# Altium integrated library 单片机常用.IntLib: 78 symbols
Pins are listed as number, name and electrical type; pins without a type are passive.

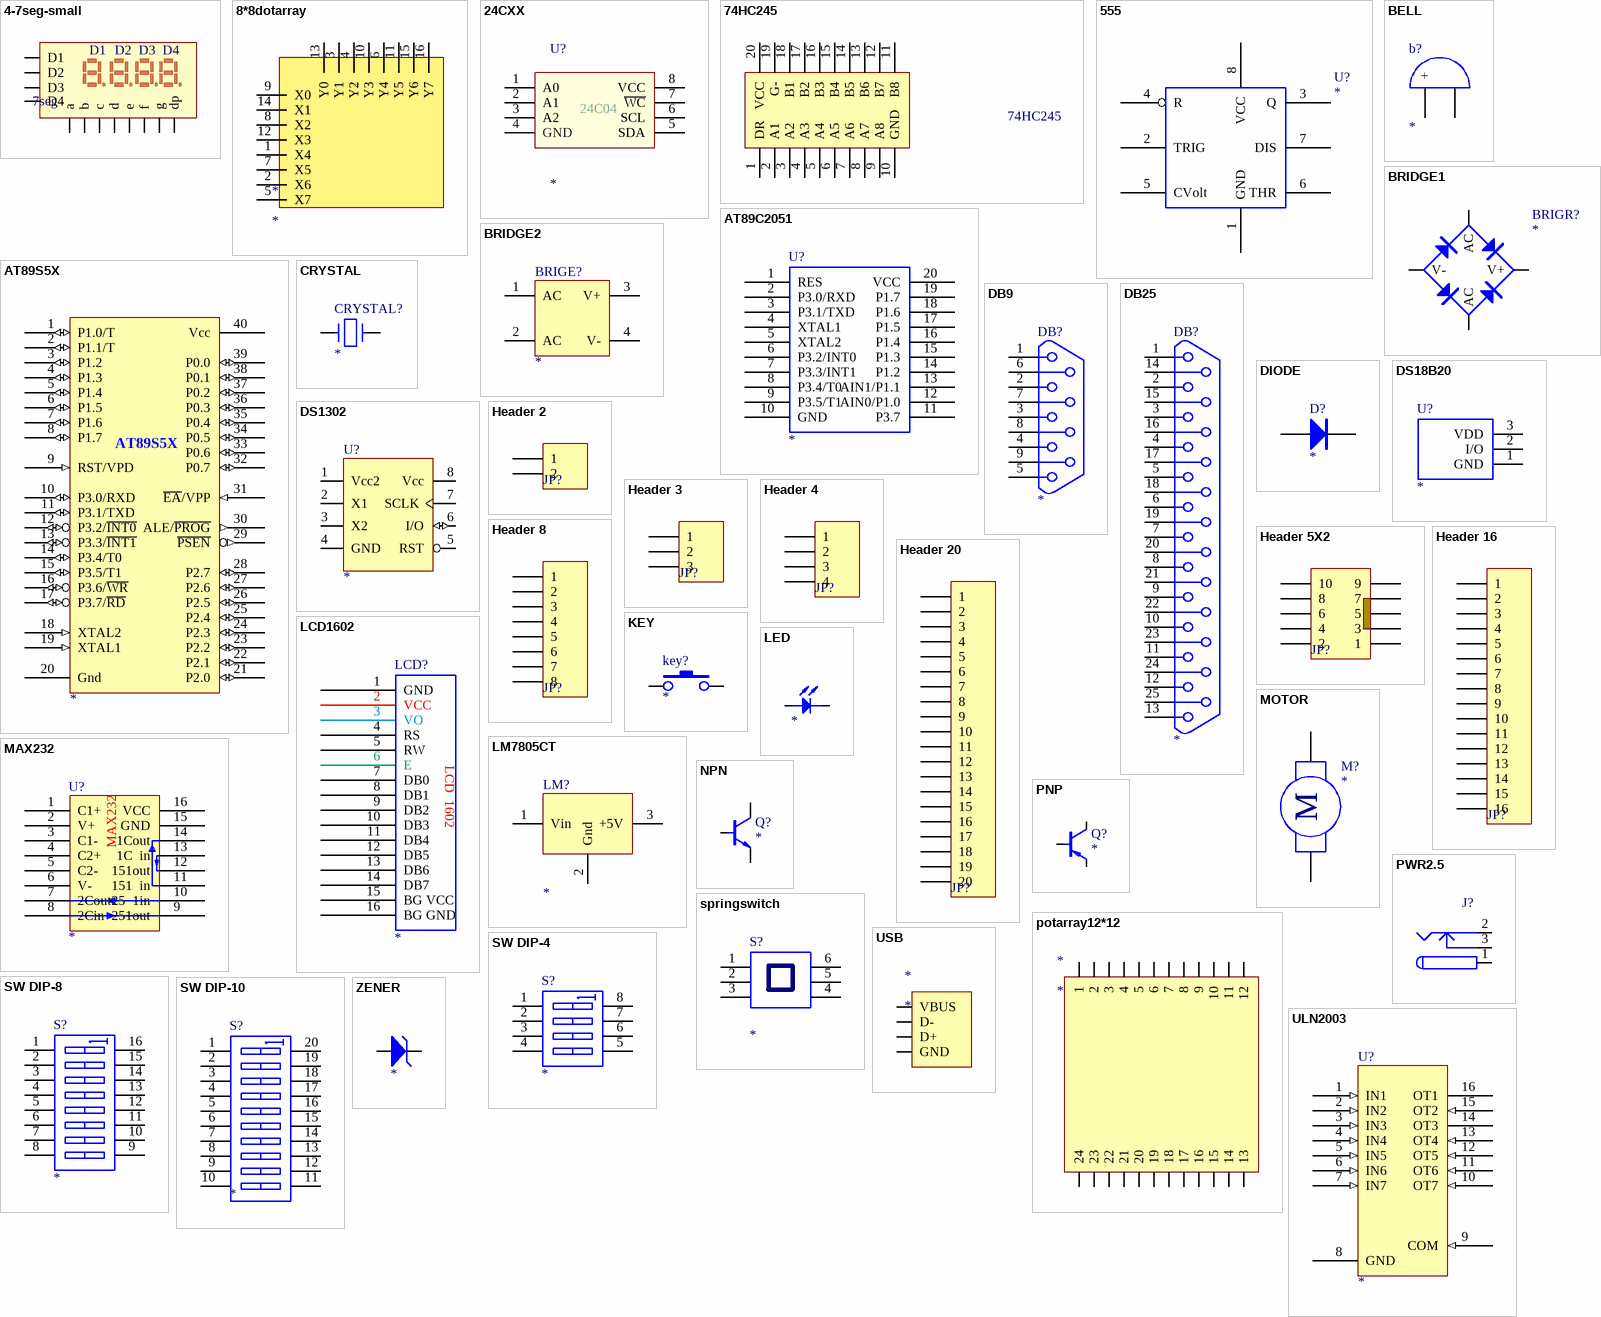
[diagram p0: symbols 4-7seg-small to ZENER]

## 4-7seg-small
designator 7seg, comment 7seg  (value not drawn)
footprint 4-7seg-small
pins: 1 e, 2 d, 3 dp, 4 c, 5 g, 6 D4, 7 b, 8 D3, 9 D2, 10 f, 11 a, 12 D1

## 8*8dotarray
designator *
footprint 8*8DIAN-DIP
pins: 1 X4, 2 X6, 3 Y1, 4 Y2, 5 X7, 6 Y4, 7 X5, 8 X2, 9 X0, 10 Y3, 11 Y5, 12 X3, 13 Y0, 14 X1, 15 Y6, 16 Y7

## 24CXX
designator U?
footprint DIP8
footprint SO-8
pins: 1 A0, 2 A1, 3 A2, 4 GND, 5 SDA, 6 SCL, 7 ~{WC}, 8 VCC
text: 24C04

## 74HC245
designator 74HC245  (value not drawn)
footprint DIP20
footprint SOL-20
pins: 1 DR, 2 A1, 3 A2, 4 A3, 5 A4, 6 A5, 7 A6, 8 A7, 9 A8, 10 GND, 11 B8, 12 B7, 13 B6, 14 B5, 15 B4, 16 B3, 17 B2, 18 B1, 19 G-, 20 VCC

## 555
designator U?
pins: 1 GND, 2 TRIG, 3 Q, 4 R, 5 CVolt, 6 THR, 7 DIS, 8 VCC

## AT89C2051
designator U?
footprint DIP20
footprint ZIF20
pins: 1 RES, 2 P3.0/RXD, 3 P3.1/TXD, 4 XTAL1, 5 XTAL2, 6 P3.2/INT0, 7 P3.3/INT1, 8 P3.4/T0, 9 P3.5/T1, 10 GND, 11 P3.7, 12 AIN0/P1.0, 13 AIN1/P1.1, 14 P1.2, 15 P1.3, 16 P1.4, 17 P1.5, 18 P1.6, 19 P1.7, 20 VCC

## AT89S5X
designator ?
footprint DIP40-big
footprint DIP40 - narrow
footprint DIP40-small
footprint ZIF40 - updown
pins: 1 P1.0/T (io), 2 P1.1/T (io), 3 P1.2 (io), 4 P1.3 (io), 5 P1.4 (io), 6 P1.5 (io), 7 P1.6 (io), 8 P1.7 (io), 9 RST/VPD (in), 10 P3.0/RXD (io), 11 P3.1/TXD (io), 12 P3.2/~{INT0} (io), 13 P3.3/~{INT1} (io), 14 P3.4/T0 (io), 15 P3.5/T1 (io), 16 P3.6/~{WR} (io), 17 P3.7/~{RD} (io), 18 XTAL2 (in), 19 XTAL1 (in), 20 Gnd (power), 21 P2.0 (io), 22 P2.1 (io), 23 P2.2 (io), 24 P2.3 (io), 25 P2.4 (io), 26 P2.5 (io), 27 P2.6 (io), 28 P2.7 (io), 29 ~{PSEN} (out), 30 ALE/~{PROG} (out), 31 ~{EA}/VPP (in), 32 P0.7 (io), 33 P0.6 (io), 34 P0.5 (io), 35 P0.4 (io), 36 P0.3 (io), 37 P0.2 (io), 38 P0.1 (io), 39 P0.0 (io), 40 Vcc (power)

## BELL
designator b?
footprint BELL
pins: 1 +, 2

## BRIDGE1
designator BRIGR?
footprint BRIDGE3
pins: 1 AC, 2 AC, 3 V+, 4 V-

## BRIDGE2
designator BRIGE?
footprint BRIDGE3
pins: 1 AC, 2 AC, 3 V+, 4 V-

## CRYSTAL
designator CRYSTAL?
footprint XTAL
pins: 1, 2

## DB9
designator DB?
footprint DB9
pins: 1, 2, 3, 4, 5, 6, 7, 8, 9

## DB25
designator DB?
footprint DB25
pins: 1, 2, 3, 4, 5, 6, 7, 8, 9, 10, 11, 12, 13, 14, 15, 16, 17, 18, 19, 20, 21, 22, 23, 24, 25

## DIODE
designator D?
footprint DIODE0.3A
pins: A, K

## DS18B20
designator U?
footprint TO92
pins: 1 GND, 2 I/O, 3 VDD

## DS1302
designator U?
footprint DIP8
pins: 1 Vcc2, 2 X1, 3 X2, 4 GND, 5 RST, 6 I/O (io), 7 SCLK, 8 Vcc

## Header 2
designator JP?
Header, 2-Pin; Revision: 17-Jul-2002: Re-released for DXP Platform.; Publisher: Altium Limited
footprint HDR1X2 (Connector; Header; 2 Position)
signal-integrity model Connector
footprint DG1282A
pins: 1, 2

## Header 3
designator JP?
Header, 3-Pin; Revision: 17-Jul-2002: Re-released for DXP Platform.; Publisher: Altium Limited
footprint HDR1X3 (Connector; Header; 3 Position)
signal-integrity model Connector
footprint DG1283 A
pins: 1, 2, 3

## Header 4
designator JP?
Header, 4-Pin; Revision: 17-Jul-2002: Re-released for DXP Platform.; Publisher: Altium Limited
signal-integrity model Connector
footprint DG1284
footprint SIP4
pins: 1, 2, 3, 4

## Header 5X2
designator JP?
Header, 5-Pin, Dual row; Revision: 17-Jul-2002: Re-released for DXP Platform.; Publisher: Altium Limited
signal-integrity model Connector
footprint HDR2X5
pins: 1, 2, 3, 4, 5, 6, 7, 8, 9, 10

## Header 8
designator JP?
Header, 8-Pin; Revision: 17-Jul-2002: Re-released for DXP Platform.; Publisher: Altium Limited
signal-integrity model Connector
footprint DG1288
footprint SIP8
pins: 1, 2, 3, 4, 5, 6, 7, 8

## Header 16
designator JP?
Header, 16-Pin; Revision: 17-Jul-2002: Re-released for DXP Platform.; Publisher: Altium Limited
footprint SIP16
signal-integrity model Connector
pins: 1, 2, 3, 4, 5, 6, 7, 8, 9, 10, 11, 12, 13, 14, 15, 16

## Header 20
designator JP?
Header, 20-Pin; Revision: 17-Jul-2002: Re-released for DXP Platform.; Publisher: Altium Limited
footprint SIP20
signal-integrity model Connector
pins: 1, 2, 3, 4, 5, 6, 7, 8, 9, 10, 11, 12, 13, 14, 15, 16, 17, 18, 19, 20

## KEY
designator key?
footprint AN12
footprint AN66
footprint key
pins: 1, 2

## LCD1602
designator LCD?
footprint 1602LCD (LCD module 16*2 char)
pins: 1 GND, 2 VCC, 3 VO, 4 RS, 5 RW, 6 E, 7 DB0, 8 DB1, 9 DB2, 10 DB3, 11 DB4, 12 DB5, 13 DB6, 14 DB7, 15 BG VCC, 16 BG GND
text: LCD  1602

## LED
designator ?
footprint LED
footprint CD3216-1206 (SMT-diode-1206)
footprint CD3216-1206 (SMT-diode-1206)
pins: 1, 2

## LM7805CT
designator LM?
footprint TO-220
footprint 78XX
pins: 1 Vin, 2 Gnd, 3 +5V

## MAX232
designator U?
footprint DIP16
pins: 1 C1+, 2 V+, 3 C1-, 4 C2+, 5 C2-, 6 V-, 7 2Cout, 8 2Cin, 9 251out, 10 25  1in, 11 151  in, 12 151out, 13 1C  in, 14 1Cout, 15 GND, 16 VCC

## MOTOR
designator M?
footprint DG1282
pins: 1, 2
text: M

## NPN
designator Q?
footprint TO-92
footprint TO-92D
pins: B b, C c, E e

## PNP
designator Q?
footprint TO-92
footprint TO-92D
pins: B b, C c, E e

## potarray12*12
designator *
footprint potarray
pins: 1, 2, 3, 4, 5, 6, 7, 8, 9, 10, 11, 12, 13, 14, 15, 16, 17, 18, 19, 20, 21, 22, 23, 24

## PWR2.5
designator J?
Low Voltage Power Supply Connector; Published: 17-Dec-2003; Datasheet: Latest Revision: 09-May-2002; Publisher: Altium Limited
footprint KLD-0202
signal-integrity model Connector
pins: 1 (power), 2 (power), 3 (power)

## springswitch
designator S?
DIP Switch
footprint Spingswitch (dip6)
pins: 1 A1, 2 A2, 3 A3, 4 B3, 5 B2, 6 B1

## SW DIP-4
designator S?
DIP Switch
footprint DIP8
pins: 1 A1, 2 A2, 3 A3, 4 A4, 5 B4, 6 B3, 7 B2, 8 B1

## SW DIP-8
designator S?
DIP Switch
footprint DIP16
pins: 1 A1, 2 A2, 3 A3, 4 A4, 5 A5, 6 A6, 7 A7, 8 A8, 9 B8, 10 B7, 11 B6, 12 B5, 13 B4, 14 B3, 15 B2, 16 B1

## SW DIP-10
designator S?
DIP Switch
footprint DIP20
pins: 1 A1, 2 A2, 3 A3, 4 A4, 5 A5, 6 A6, 7 A7, 8 A8, 9 A9, 10 A10, 11 B10, 12 B9, 13 B8, 14 B7, 15 B6, 16 B5, 17 B4, 18 B3, 19 B2, 20 B1

## ULN2003
designator U?
footprint DIP16
pins: 1 IN1 (in), 2 IN2 (in), 3 IN3 (in), 4 IN4 (in), 5 IN5 (in), 6 IN6 (in), 7 IN7 (in), 8 GND (power), 9 COM (in), 10 OT7 (in), 11 OT6 (in), 12 OT5 (in), 13 OT4 (in), 14 OT3 (hiz), 15 OT2 (in), 16 OT1 (power)

## USB
designator *
footprint USB
pins: 1 VBUS, 2 D-, 3 D+, 4 GND

## ZENER
designator ?
footprint diode0.4a
footprint DIODE0.3A
pins: A, K


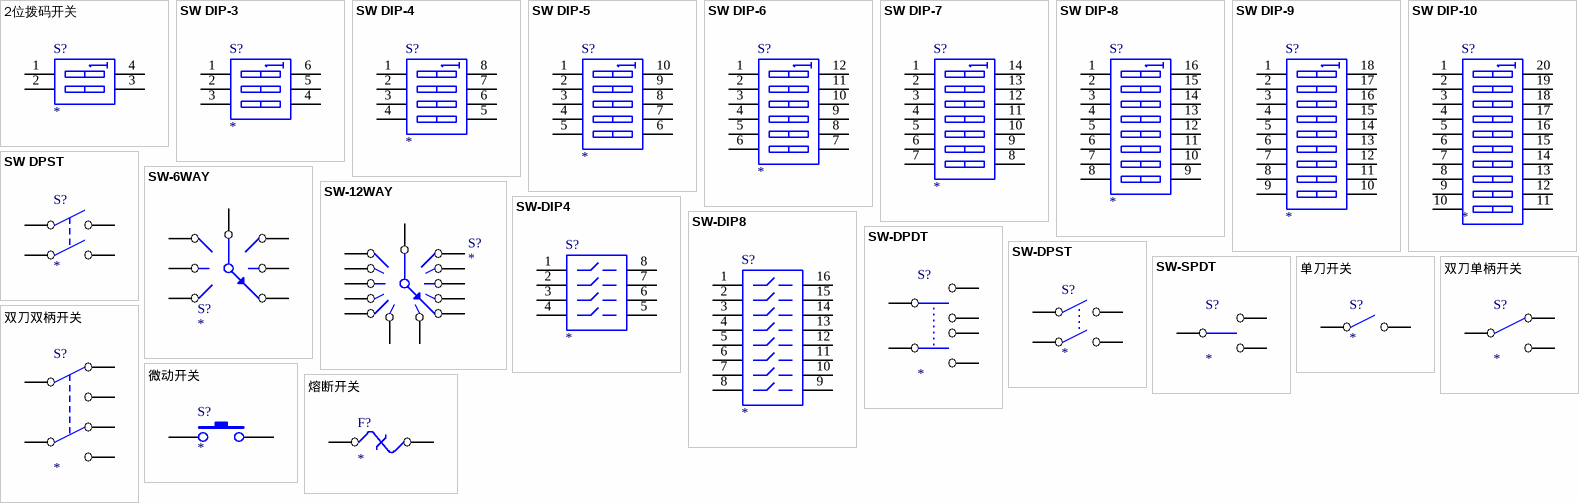
[diagram p1: symbols 2位拨码开关 to 熔断开关]

## 2位拨码开关
designator S?
DIP Switch
pins: 1 A1, 2 A2, 3 B2, 4 B1

## SW DIP-3
designator S?
DIP Switch
footprint DIP6
pins: 1 A1, 2 A2, 3 A3, 4 B3, 5 B2, 6 B1

## SW DIP-4
designator S?
DIP Switch
footprint DIP8
pins: 1 A1, 2 A2, 3 A3, 4 A4, 5 B4, 6 B3, 7 B2, 8 B1

## SW DIP-5
designator S?
DIP Switch
footprint DIP10
pins: 1 A1, 2 A2, 3 A3, 4 A4, 5 A5, 6 B5, 7 B4, 8 B3, 9 B2, 10 B1

## SW DIP-6
designator S?
DIP Switch
pins: 1 A1, 2 A2, 3 A3, 4 A4, 5 A5, 6 A6, 7 B6, 8 B5, 9 B4, 10 B3, 11 B2, 12 B1

## SW DIP-7
designator S?
DIP Switch
footprint DIP14
pins: 1 A1, 2 A2, 3 A3, 4 A4, 5 A5, 6 A6, 7 A7, 8 B7, 9 B6, 10 B5, 11 B4, 12 B3, 13 B2, 14 B1

## SW DIP-8
designator S?
DIP Switch
footprint DIP16
pins: 1 A1, 2 A2, 3 A3, 4 A4, 5 A5, 6 A6, 7 A7, 8 A8, 9 B8, 10 B7, 11 B6, 12 B5, 13 B4, 14 B3, 15 B2, 16 B1

## SW DIP-9
designator S?
DIP Switch
footprint DIP18
pins: 1 A1, 2 A2, 3 A3, 4 A4, 5 A5, 6 A6, 7 A7, 8 A8, 9 A9, 10 B9, 11 B8, 12 B7, 13 B6, 14 B5, 15 B4, 16 B3, 17 B2, 18 B1

## SW DIP-10
designator S?
DIP Switch
footprint DIP20
pins: 1 A1, 2 A2, 3 A3, 4 A4, 5 A5, 6 A6, 7 A7, 8 A8, 9 A9, 10 A10, 11 B10, 12 B9, 13 B8, 14 B7, 15 B6, 16 B5, 17 B4, 18 B3, 19 B2, 20 B1

## SW DPST
designator S?
pins: 1 COMMON1, 2 NO1, 3 COMMON2, 4 NO2

## SW-6WAY
designator S?
pins: 1, 2, 3, 4, 5, 6, 7

## SW-12WAY
designator S?
pins: 1, 2, 3, 4, 5, 6, 7, 8, 9, 10, 11, 12, 13

## SW-DIP4
designator S?
pins: 1, 2, 3, 4, 5, 6, 7, 8

## SW-DIP8
designator S?
pins: 1, 2, 3, 4, 5, 6, 7, 8, 9, 10, 11, 12, 13, 14, 15, 16

## SW-DPDT
designator S?
pins: 1, 2, 3, 4, 5, 6

## SW-DPST
designator S?
pins: 1, 2, 3, 4

## SW-SPDT
designator S?
pins: 1, 2, 3

## 单刀开关
designator S?
pins: 1, 2

## 双刀单柄开关
designator S?
pins: 1 COMMON, 2 NC, 3 NO

## 双刀双柄开关
designator S?
pins: 1 COMMON1, 2 NC1, 3 NO1, 4 NC2, 5 COMMON2, 6 NO2

## 微动开关
designator S?
footprint AN12
footprint AN66
pins: 1, 2

## 熔断开关
designator F?
pins: 1, 2


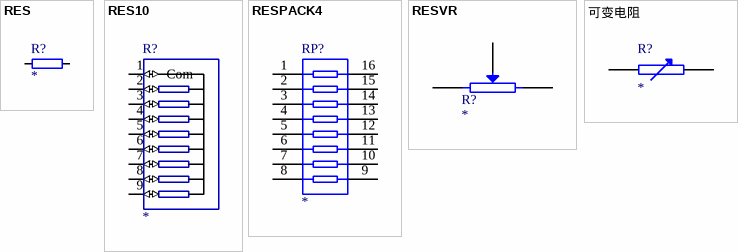
[diagram p2: symbols RES to 可变电阻]

## RES
designator R?
footprint AXIAL0.3
footprint AXIAL0.4
footprint AXIAL0.5
footprint CR3216-1206
pins: 1, 2

## RES10
designator R?
footprint SIP9
pins: 1 Com (io), 2 (io), 3 (io), 4 (io), 5 (io), 6 (io), 7 (io), 8 (io), 9 (io)

## RESPACK4
designator RP?
footprint DIP16
pins: 1, 2, 3, 4, 5, 6, 7, 8, 9, 10, 11, 12, 13, 14, 15, 16

## RESVR
designator R?
Potentiometer
footprint VR
footprint VR3296
footprint VR3296-1
pins: 1, 2, 3 w

## 可变电阻
designator R?
footprint VR3296-1
footprint VR3296
footprint VR
pins: 1, 2


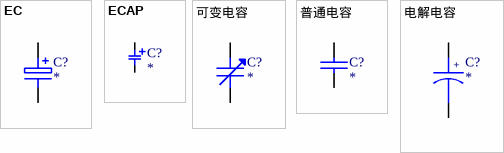
[diagram p3: symbols EC to 电解电容]

## EC
designator C?
footprint RB.1/.2
footprint RB.2/.4
footprint CD4
pins: 1, 2 E

## ECAP
designator C?
footprint CD4
footprint CD5
footprint CD6
footprint CD7
pins: 1, 2

## 可变电容
designator C?
Variable Capacitor
pins: 1, 2

## 普通电容
designator C?
Capacitor
footprint RAD0.1
footprint RAD0.2
footprint RAD0.3
footprint dushi-cap (Dushi cap 100mil)
footprint CC3216-1206 (SMT-C-1206)
pins: 1, 2

## 电解电容
designator C?
Capacitor
footprint CAPPR2.5-6.3X7
footprint CAPPR2-5X5
pins: 1, 2
text: +


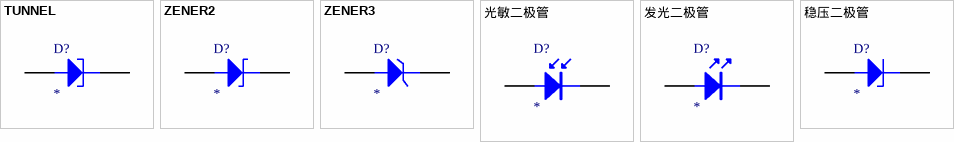
[diagram p4: symbols TUNNEL to 稳压二极管]

## TUNNEL
designator D?
Tunnel FDiode
pins: 1 A, 2 K

## ZENER2
designator D?
Zener Diode
pins: 1 A, 2 K

## ZENER3
designator D?
Zener Diode
pins: 1 A, 2 K

## 光敏二极管
designator D?
Photosensitive Diode
footprint LED
pins: 1 A, 2 K

## 发光二极管
designator D?
footprint LED
pins: 1, 2

## 稳压二极管
designator D?
Zener Diode
footprint Diode0.3
footprint Diode0.4
pins: 1 A, 2 K